# EAGLE library part PICAXE-40X2 (library PICAXE)
PICAXE chips come in two series – the M2 and X2 series – and 6 physical sizes (8, 14, 18, 20, 28, 40 pin). Feature 08M2 14M2 18M2 20M2 20X2 28X2 40X2 Memory Capacity(bytes) 2048 2048 x2 2048 x2 2048 x2 4096 4096 x4 4096 x4 RAM (bytes) 128 512 512 512 256 1280 1280 Byte Variables (bytes) 28 28 28 28 56 56 56 Input/Outputs Pins 6 12 16 18 18 22 33 ADC/Touch Pins 3 7 10 11 11 16 27 Max. Freq. (MHz) 32 32 32 32 64 64 64 Serial In/Out Yes Yes Yes Yes Yes Yes Yes Infrared In/Out Yes Yes Yes Yes Yes Yes Yes I2C Yes Yes Yes Yes Yes Yes Yes Tune (ring tones) Yes Yes Yes Yes Yes Yes Yes Parallel Tasks 4 8 8 8 1 1 1 Program Slots 1 2 2 2 1 4 4
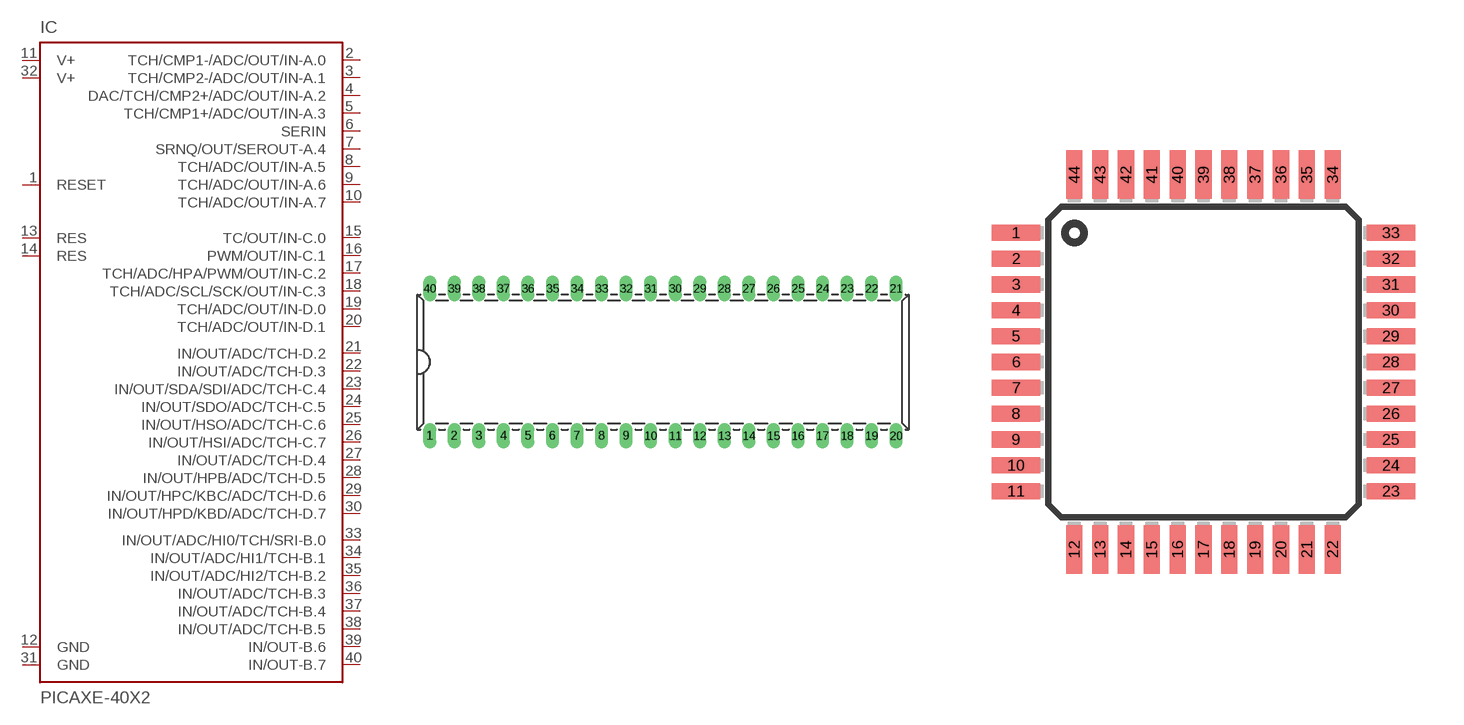
[diagram p5: symbol with the pads of DIL40; footprints DIL40, TQFP44]

Designator prefix IC

## PICAXE-40X2-DIL  [DIL40]
1  RESET  pwr
2  TCH/CMP1-/ADC/OUT/IN-A.0
3  TCH/CMP2-/ADC/OUT/IN-A.1
4  DAC/TCH/CMP2+/ADC/OUT/IN-A.2
5  TCH/CMP1+/ADC/OUT/IN-A.3
6  SERIN  in
7  SRNQ/OUT/SEROUT-A.4  out
8  TCH/ADC/OUT/IN-A.5
9  TCH/ADC/OUT/IN-A.6
10  TCH/ADC/OUT/IN-A.7
11  V+
12  GND
13  RES
14  RES
15  TC/OUT/IN-C.0
16  PWM/OUT/IN-C.1
17  TCH/ADC/HPA/PWM/OUT/IN-C.2
18  TCH/ADC/SCL/SCK/OUT/IN-C.3
19  TCH/ADC/OUT/IN-D.0
20  TCH/ADC/OUT/IN-D.1
21  IN/OUT/ADC/TCH-D.2
22  IN/OUT/ADC/TCH-D.3
23  IN/OUT/SDA/SDI/ADC/TCH-C.4
24  IN/OUT/SDO/ADC/TCH-C.5
25  IN/OUT/HSO/ADC/TCH-C.6
26  IN/OUT/HSI/ADC/TCH-C.7
27  IN/OUT/ADC/TCH-D.4
28  IN/OUT/HPB/ADC/TCH-D.5
29  IN/OUT/HPC/KBC/ADC/TCH-D.6
30  IN/OUT/HPD/KBD/ADC/TCH-D.7
31  GND  pwr
32  V+  pwr
33  IN/OUT/ADC/HI0/TCH/SRI-B.0
34  IN/OUT/ADC/HI1/TCH-B.1
35  IN/OUT/ADC/HI2/TCH-B.2
36  IN/OUT/ADC/TCH-B.3
37  IN/OUT/ADC/TCH-B.4
38  IN/OUT/ADC/TCH-B.5
39  IN/OUT-B.6
40  IN/OUT-B.7

## PICAXE-40X2-SMD  [TQFP44]
1  IN/OUT/HSI/ADC/TCH-C.7
2  IN/OUT/ADC/TCH-D.4
3  IN/OUT/HPB/ADC/TCH-D.5
4  IN/OUT/HPC/KBC/ADC/TCH-D.6
5  IN/OUT/HPD/KBD/ADC/TCH-D.7
6  GND
7  V+
8  IN/OUT/ADC/HI0/TCH/SRI-B.0
9  IN/OUT/ADC/HI1/TCH-B.1
10  IN/OUT/ADC/HI2/TCH-B.2
11  IN/OUT/ADC/TCH-B.3
14  IN/OUT/ADC/TCH-B.4
15  IN/OUT/ADC/TCH-B.5
16  IN/OUT-B.6
17  IN/OUT-B.7
18  RESET  pwr
19  TCH/CMP1-/ADC/OUT/IN-A.0
20  TCH/CMP2-/ADC/OUT/IN-A.1
21  DAC/TCH/CMP2+/ADC/OUT/IN-A.2
22  TCH/CMP1+/ADC/OUT/IN-A.3
23  SERIN  in
24  SRNQ/OUT/SEROUT-A.4  out
25  TCH/ADC/OUT/IN-A.5
26  TCH/ADC/OUT/IN-A.6
27  TCH/ADC/OUT/IN-A.7
28  V+  pwr
29  GND  pwr
30  RES
31  RES
32  TC/OUT/IN-C.0
35  PWM/OUT/IN-C.1
36  TCH/ADC/HPA/PWM/OUT/IN-C.2
37  TCH/ADC/SCL/SCK/OUT/IN-C.3
38  TCH/ADC/OUT/IN-D.0
39  TCH/ADC/OUT/IN-D.1
40  IN/OUT/ADC/TCH-D.2
41  IN/OUT/ADC/TCH-D.3
42  IN/OUT/SDA/SDI/ADC/TCH-C.4
43  IN/OUT/SDO/ADC/TCH-C.5
44  IN/OUT/HSO/ADC/TCH-C.6

## Footprint DIL40 (pad centres in mm)
drill 0.813 long: 1 -24.13,-7.62; 2 -21.59,-7.62; 3 -19.05,-7.62; 4 -16.51,-7.62; 5 -13.97,-7.62; 6 -11.43,-7.62; 7 -8.89,-7.62; 8 -6.35,-7.62; 9 -3.81,-7.62; 10 -1.27,-7.62; 11 1.27,-7.62; 12 3.81,-7.62; 13 6.35,-7.62; 14 8.89,-7.62; 15 11.43,-7.62; 16 13.97,-7.62; 17 16.51,-7.62; 18 19.05,-7.62; 19 21.59,-7.62; 20 24.13,-7.62; 21 24.13,7.62; 22 21.59,7.62; 23 19.05,7.62; 24 16.51,7.62; 25 13.97,7.62; 26 11.43,7.62; 27 8.89,7.62; 28 6.35,7.62; 29 3.81,7.62; 30 1.27,7.62; 31 -1.27,7.62; 32 -3.81,7.62; 33 -6.35,7.62; 34 -8.89,7.62; 35 -11.43,7.62; 36 -13.97,7.62; 37 -16.51,7.62; 38 -19.05,7.62; 39 -21.59,7.62; 40 -24.13,7.62

## Footprint TQFP44 (pad centres in mm)
smd 1.5 x 0.5: 1 -5.8,4; 2 -5.8,3.2; 3 -5.8,2.4; 4 -5.8,1.6; 5 -5.8,0.8; 6 -5.8,0; 7 -5.8,-0.8; 8 -5.8,-1.6; 9 -5.8,-2.4; 10 -5.8,-3.2; 11 -5.8,-4; 23 5.8,-4; 24 5.8,-3.2; 25 5.8,-2.4; 26 5.8,-1.6; 27 5.8,-0.8; 28 5.8,0; 29 5.8,0.8; 30 5.8,1.6; 31 5.8,2.4; 32 5.8,3.2; 33 5.8,4
smd 0.5 x 1.5: 12 -4,-5.8; 13 -3.2,-5.8; 14 -2.4,-5.8; 15 -1.6,-5.8; 16 -0.8,-5.8; 17 0,-5.8; 18 0.8,-5.8; 19 1.6,-5.8; 20 2.4,-5.8; 21 3.2,-5.8; 22 4,-5.8; 34 4,5.8; 35 3.2,5.8; 36 2.4,5.8; 37 1.6,5.8; 38 0.8,5.8; 39 0,5.8; 40 -0.8,5.8; 41 -1.6,5.8; 42 -2.4,5.8; 43 -3.2,5.8; 44 -4,5.8